# Altium schematic symbol library LAN9514-JZX.Schlib: 1 symbol
Pins are listed as number, name and electrical type; pins without a type are passive.

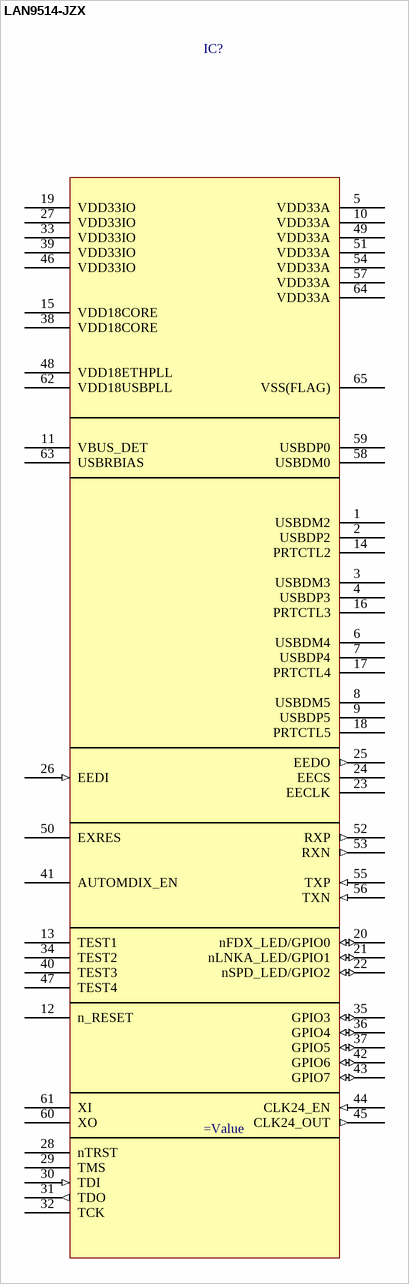
[diagram p0: symbol LAN9514-JZX]

## LAN9514-JZX
designator IC?
=Description
pins: 1 USBDM2, 2 USBDP2, 3 USBDM3, 4 USBDP3, 5 VDD33A (power), 6 USBDM4, 7 USBDP4, 8 USBDM5, 9 USBDP5, 10 VDD33A (power), 11 VBUS_DET, 12 n_RESET, 13 TEST1, 14 PRTCTL2, 15 VDD18CORE (power), 16 PRTCTL3, 17 PRTCTL4, 18 PRTCTL5, 19 VDD33IO (power), 20 nFDX_LED/GPIO0 (io), 21 nLNKA_LED/GPIO1 (io), 22 nSPD_LED/GPIO2 (io), 23 EECLK, 24 EECS, 25 EEDO (out), 26 EEDI (in), 27 VDD33IO (power), 28 nTRST, 29 TMS, 30 TDI (in), 31 TDO (out), 32 TCK, 33 VDD33IO (power), 34 TEST2, 35 GPIO3 (io), 36 GPIO4 (io), 37 GPIO5 (io), 38 VDD18CORE (power), 39 VDD33IO (power), 40 TEST3, 41 AUTOMDIX_EN, 42 GPIO6 (io), 43 GPIO7 (io), 44 CLK24_EN (in), 45 CLK24_OUT (out), 46 VDD33IO (power), 47 TEST4, 48 VDD18ETHPLL (power), 49 VDD33A (power), 50 EXRES, 51 VDD33A (power), 52 RXP (out), 53 RXN (out), 54 VDD33A (power), 55 TXP (in), 56 TXN (in), 57 VDD33A (power), 58 USBDM0, 59 USBDP0, 60 XO, 61 XI, 62 VDD18USBPLL (power), 63 USBRBIAS, 64 VDD33A (power), 65 VSS(FLAG) (power)